# EAGLE library part FLYFISH_EEPROM24 (library untitled)
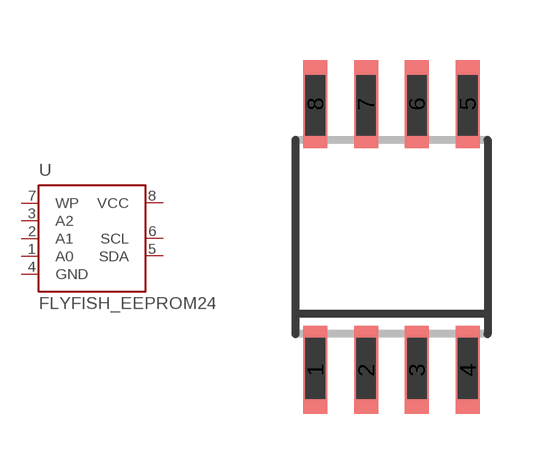
[diagram p3: symbol with the pads of FLYFISH_SOIC8; footprint FLYFISH_SOIC8]

Designator prefix U

## FLYFISH_EEPROM24  [FLYFISH_SOIC8]
1  A0  in
2  A1  in
3  A2  in
4  GND  pwr
5  SDA
6  SCL  in
7  WP  in
8  VCC  pwr

## Footprint FLYFISH_SOIC8 (pad centres in mm)
smd 0.6 x 2.2: 1 -1.905,-3.33; 2 -0.635,-3.33; 3 0.635,-3.33; 4 1.905,-3.33; 5 1.905,3.33; 6 0.635,3.33; 7 -0.635,3.33; 8 -1.905,3.33